# Altium integrated library ICs.IntLib: 97 symbols (part 3 of 3)
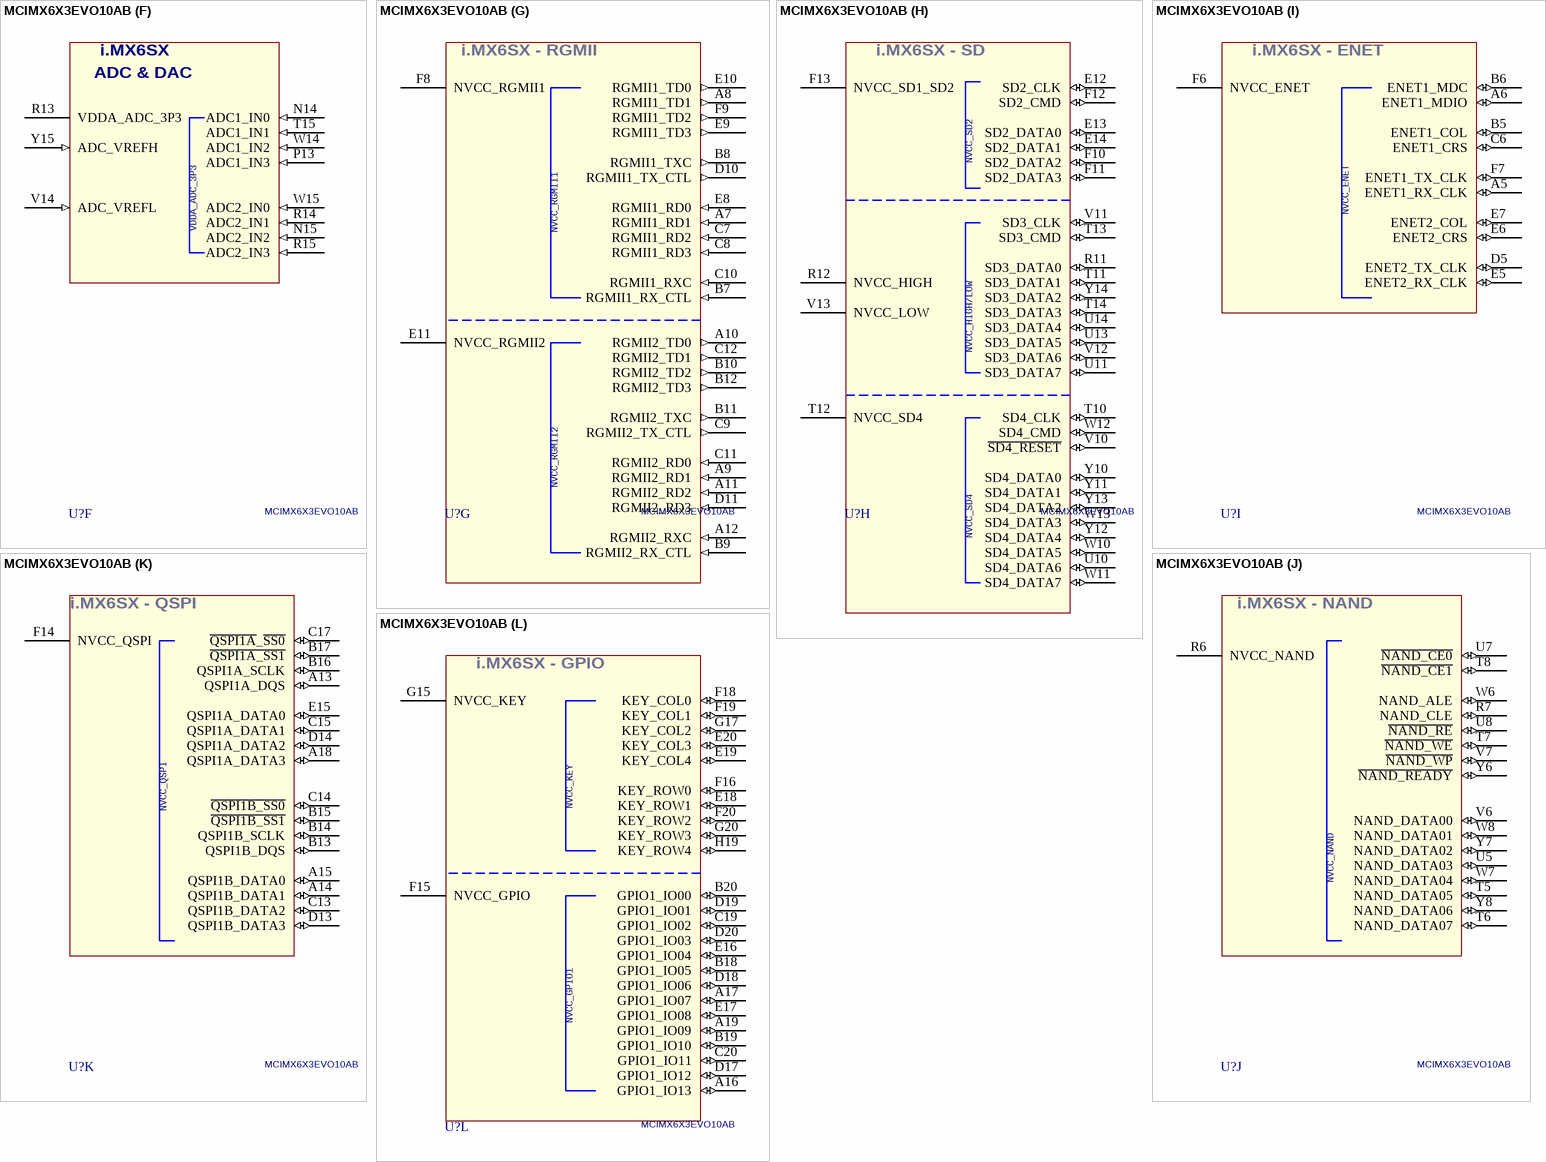
[diagram p38: symbol MCIMX6X3EVO10AB]

## MCIMX6X3EVO10AB
designator U?
IC MPU I.MX6SX 1GHZ 400MAPBGA; Manufacturer: NXP; PartNumber: MCIMX6X3EVO10AB; Mounting Technology: Surface Mount; PackageReference: BGA-400
footprint BGA-400 (BGA, 400-Leads, Body 14.00x14.00mmx1.30mm, Pitch 0.65mm)
part A pins: A1 VSS_1 (power), A20 VSS_2 (power), C3 VSS_3 (power), C4 VSS_4 (power), C16 VDD_ARM_CAP_0 (power), C18 VSS_5 (power), D6 VSS_6 (power), D7 VDD_SOC_IN_0 (power), D8 VDD_SOC_IN_1 (power), D9 VSS_7 (power), D12 VSS_8 (power), D15 VSS_9 (power), D16 VDD_ARM_CAP_1 (power), E3 VSS_10 (power), F3 VSS_11 (power), F5 VSS_12 (power), F17 VSS_13 (power), G7 VSS_14 (power), G8 VSS_15 (power), G9 VSS_16 (power), G10 VSS_17 (power), G11 VSS_18 (power), G12 VSS_19 (power), G13 VSS_20 (power), G14 VSS_21 (power), H3 VSS_22 (power), H7 VSS_23 (power), H8 VDD_SOC_CAP_0 (power), H9 VDD_SOC_CAP_1 (power), H10 VDD_ARM_CAP_2 (power), H11 VDD_ARM_CAP_3 (power), H12 VDD_ARM_CAP_4 (power), H13 VDD_ARM_CAP_5 (power), H14 VSS_24 (power), H18 VDD_ARM_IN (power), J7 VSS_25 (power), J8 VDD_SOC_CAP_2 (power), J9 VDD_SOC_IN_2 (power), J10 VDD_ARM_IN_0 (power), J11 VDD_ARM_IN_1 (power), J12 VDD_ARM_IN_2 (power), J13 VDD_ARM_CAP_6 (power), J14 VSS_26 (power), J17 VSS_27 (power), K3 VSS_28 (power), K8 VDD_SOC_CAP_3 (power), K9 VDD_SOC_IN_3 (power), K10 VSS_29 (power), K11 VSS_30 (power), K12 VDD_ARM_IN_3 (power), K13 VDD_ARM_CAP_7 (power), K14 VSS_31 (power), L3 VSS_32 (power), L7 VSS_33 (power), L8 VDD_SOC_CAP_4 (power), L9 VDD_SOC_IN_4 (power), L10 VSS_34 (power), L11 VSS_35 (power), L12 VDD_ARM_IN_4 (power), L13 VDD_ARM_CAP_8 (power), L14 VSS_36 (power), L18 PCIE_VP_CAP (power), M7 VSS_37 (power), M8 VDD_SOC_CAP_5 (power), M9 VDD_SOC_IN_5 (power), M10 VDD_SOC_IN_6 (power), M11 VDD_SOC_IN_7 (power), M12 VDD_SOC_IN_8 (power), M13 VDD_SOC_CAP_6 (power), M14 VSS_38 (power), M17 VSS_39 (power), N3 VSS_40 (power), N7 VSS_41 (power), N8 VDD_SOC_CAP_7 (power), N9 VDD_SOC_CAP_8 (power), N10 VDD_SOC_CAP_9 (power), N11 VDD_SOC_CAP_10 (power), N12 VDD_SOC_CAP_11 (power), N13 VSS_42 (power), N17 VDD_HIGH_CAP_0 (power), N18 VDD_HIGH_CAP_1 (power), P7 VSS_43 (power), P8 VSS_44 (power), P9 VSS_45 (power), P10 VSS_46 (power), P11 VSS_47 (power), P12 VSS_48 (power), P17 VDD_HIGH_IN_0 (power), P18 VDD_HIGH_IN_1 (power), R3 VSS_49 (power), R5 VSS_50 (power), R17 VSS_51 (power), R18 VDD_SNVS_IN (power), R19 VSS_52 (power), R20 VSS_53 (power), T3 VSS_54 (power), T16 NVSS_KEL0 (power), T18 VDD_SNVS_CAP (power), U6 VSS_55 (power), U9 VSS_56 (power), U12 VSS_57 (power), U15 VSS_58 (power), U18 NVCC_PLL (power), U19 VSS_59 (power), U20 VSS_60 (power), V3 VSS_61 (power), V4 VSS_62 (power), V9 VDD_SOC_CAP_12 (power), V18 VSS_63 (power), W18 VSS_64 (power), Y1 VSS_65 (power), Y18 VSS_66 (power), Y20 VSS_67 (power)
part B pins: N16 CCM_PMIC_STBY_REQ (out), P14 SNVS_TAMPER (in), P15 SNVS_PMIC_ON_REQ (out), P16 GPANAIO (power), P19 CCM_CLK1_P (io), P20 CCM_CLK1_N (io), R8 JTAG_MOD (in), R9 JTAG_TCK (in), R10 JTAG_TDI (in), R16 ~{POR} (in), T9 NVCC_JTAG (power), T19 XTALI (in), T20 XTALO (out), U16 ONOFF (in), V8 ~{JTAG_TRST} (in), V15 TEST_MODE (in), V16 CCM_CLK2 (io), W9 JTAG_TMS (in), W16 BOOT_MODE1 (in), W17 RTC_XTALO (out), Y9 JTAG_TDO (out), Y16 BOOT_MODE0 (in), Y17 RTC_XTALI (in)
part C pins: A2 DRAM_DATA28 (io), A3 DRAM_DATA26 (io), A4 DRAM_DATA31 (io), B1 DRAM_SDQS3_N (io), B2 DRAM_SDQS3_P (io), B3 DRAM_DATA25 (io), B4 DRAM_DATA30 (io), C1 DRAM_DQM3 (out), C2 DRAM_DATA27 (io), C5 DRAM_DATA29 (io), D1 DRAM_DATA13 (io), D2 DRAM_DATA15 (io), D3 DRAM_DATA24 (io), D4 DRAM_RESET (out), E1 DRAM_DATA14 (io), E2 DRAM_DATA11 (io), E4 DRAM_DATA12 (io), F1 DRAM_DATA08 (io), F2 DRAM_DATA09 (io), F4 DRAM_ADDR05 (out), G1 DRAM_SDQS1_P (io), G2 DRAM_DQM1 (out), G3 DRAM_DATA10 (io), G4 DRAM_SDBA0 (out), G5 DRAM_ADDR07 (out), G6 NVCC_DRAM_0 (power), H1 DRAM_SDQS1_N (io), H2 DRAM_ZQPAD (in), H4 DRAM_ADDR10 (out), H5 DRAM_ADDR04 (out), H6 NVCC_DRAM_1 (power), J1 ~{DRAM_RAS} (out), J2 DRAM_SDBA2 (out), J3 DRAM_ADDR13 (out), J4 DRAM_ADDR08 (out), J5 DRAM_SDCKE1 (out), J6 NVCC_DRAM_2 (power), K1 DRAM_SDCLK0_P (out), K2 ~{DRAM_CS1} (out), K4 DRAM_VREF (power), K5 DRAM_ADDR03 (out), K6 NVCC_DRAM_3 (power), K7 NVCC_DRAM_2P5 (power), L1 DRAM_SDCLK0_N (out), L2 DRAM_ADDR09 (out), L4 ~{DRAM_CS0} (out), L5 DRAM_SDCKE0 (out), L6 NVCC_DRAM_4 (power), M1 ~{DRAM_SDWE} (out), M2 DRAM_SDBA1 (out), M3 DRAM_ADDR11 (out), M4 DRAM_ADDR02 (out), M5 DRAM_ADDR12 (out), M6 NVCC_DRAM_5 (power), N1 DRAM_DQM0 (out), N2 ~{DRAM_CAS} (out), N4 DRAM_ADDR06 (out), N5 DRAM_ADDR00 (out), N6 NVCC_DRAM_6 (power), P1 DRAM_SDQS0_P (io), P2 DRAM_SDQS0_N (io), P3 DRAM_DATA06 (io), P4 DRAM_DATA07 (io), P5 DRAM_ADDR01 (out), P6 NVCC_DRAM_7 (power), R1 DRAM_ADDR14 (out), R2 DRAM_DATA03 (io), R4 DRAM_DATA05 (io), T1 DRAM_ODT0 (out), T2 DRAM_DATA00 (io), T4 DRAM_DATA22 (io), U1 DRAM_DATA02 (io), U2 DRAM_DATA01 (io), U3 DRAM_DATA04 (io), U4 DRAM_DATA19 (io), V1 DRAM_SDQS2_P (io), V2 DRAM_SDQS2_N (io), W1 DRAM_DQM2 (out), W2 DRAM_DATA23 (io), W3 DRAM_DATA20 (io), W4 DRAM_DATA17 (io), Y2 DRAM_DATA21 (io), Y3 DRAM_DATA18 (io), Y4 DRAM_DATA16 (io)
part D pins: G16 LCD1_DATA23 (io), G18 LCD1_DATA21 (io), G19 LCD1_DATA22 (io), H15 NVCC_CSI_LCD1 (power), H16 LCD1_DATA15 (io), H17 LCD1_DATA20 (io), H20 LCD1_DATA16 (io), J15 LCD1_HSYNC (io), J16 LCD1_VSYNC (io), J18 LCD1_RESET (io), J19 LCD1_DATA07 (io), J20 LCD1_DATA19 (io), K15 LCD1_DATA12 (io), K16 LCD1_DATA13 (io), K17 LCD1_DATA14 (io), K18 LCD1_DATA08 (io), K19 LCD1_DATA10 (io), K20 LCD1_ENABLE (io), L15 LCD1_DATA09 (io), L16 LCD1_DATA11 (io), L17 LCD1_DATA01 (io), L19 LCD1_CLK (io), L20 LCD1_DATA18 (io), M15 LCD1_DATA05 (io), M16 LCD1_DATA06 (io), M18 LCD1_DATA02 (io), M19 LCD1_DATA00 (io), M20 LCD1_DATA17 (io), N19 LCD1_DATA04 (io), N20 LCD1_DATA03 (io)
part E pins: T17 ~{USB_OTG1_CHD} (out), U17 USB_OTG2_VBUS (power), V5 NVCC_USB_H (power), V17 VDD_USB_CAP (power), V19 USB_OTG1_DN (io), V20 USB_OTG1_DP (io), W5 USB_H_STROBE, W19 USB_OTG2_DP (io), W20 USB_OTG1_VBUS (power), Y5 USB_H_DATA, Y19 USB_OTG2_DN (io)
part F pins: N14 ADC1_IN0 (in), N15 ADC2_IN2 (in), P13 ADC1_IN3 (in), R13 VDDA_ADC_3P3 (power), R14 ADC2_IN1 (in), R15 ADC2_IN3 (in), T15 ADC1_IN1 (in), V14 ADC_VREFL (in), W14 ADC1_IN2 (in), W15 ADC2_IN0 (in), Y15 ADC_VREFH (in)
part G pins: A7 RGMII1_RD1 (in), A8 RGMII1_TD1 (out), A9 RGMII2_RD1 (in), A10 RGMII2_TD0 (out), A11 RGMII2_RD2 (in), A12 RGMII2_RXC (in), B7 RGMII1_RX_CTL (in), B8 RGMII1_TXC (out), B9 RGMII2_RX_CTL (in), B10 RGMII2_TD2 (out), B11 RGMII2_TXC (out), B12 RGMII2_TD3 (out), C7 RGMII1_RD2 (in), C8 RGMII1_RD3 (in), C9 RGMII2_TX_CTL (out), C10 RGMII1_RXC (in), C11 RGMII2_RD0 (in), C12 RGMII2_TD1 (out), D10 RGMII1_TX_CTL (out), D11 RGMII2_RD3 (in), E8 RGMII1_RD0 (in), E9 RGMII1_TD3 (out), E10 RGMII1_TD0 (out), E11 NVCC_RGMII2 (power), F8 NVCC_RGMII1 (power), F9 RGMII1_TD2 (out)
part H pins: E12 SD2_CLK (io), E13 SD2_DATA0 (io), E14 SD2_DATA1 (io), F10 SD2_DATA2 (io), F11 SD2_DATA3 (io), F12 SD2_CMD (io), F13 NVCC_SD1_SD2 (power), R11 SD3_DATA0 (io), R12 NVCC_HIGH (power), T10 SD4_CLK (io), T11 SD3_DATA1 (io), T12 NVCC_SD4 (power), T13 SD3_CMD (io), T14 SD3_DATA3 (io), U10 SD4_DATA6 (io), U11 SD3_DATA7 (io), U13 SD3_DATA5 (io), U14 SD3_DATA4 (io), V10 ~{SD4_RESET} (io), V11 SD3_CLK (io), V12 SD3_DATA6 (io), V13 NVCC_LOW (power), W10 SD4_DATA5 (io), W11 SD4_DATA7 (io), W12 SD4_CMD (io), W13 SD4_DATA3 (io), Y10 SD4_DATA0 (io), Y11 SD4_DATA1 (io), Y12 SD4_DATA4 (io), Y13 SD4_DATA2 (io), Y14 SD3_DATA2 (io)
part I pins: A5 ENET1_RX_CLK (io), A6 ENET1_MDIO (io), B5 ENET1_COL (io), B6 ENET1_MDC (io), C6 ENET1_CRS (io), D5 ENET2_TX_CLK (io), E5 ENET2_RX_CLK (io), E6 ENET2_CRS (io), E7 ENET2_COL (io), F6 NVCC_ENET (power), F7 ENET1_TX_CLK (io)
part J pins: R6 NVCC_NAND (power), R7 NAND_CLE (io), T5 NAND_DATA05 (io), T6 NAND_DATA07 (io), T7 ~{NAND_WE} (io), T8 ~{NAND_CE1} (io), U5 NAND_DATA03 (io), U7 ~{NAND_CE0} (io), U8 ~{NAND_RE} (io), V6 NAND_DATA00 (io), V7 ~{NAND_WP} (io), W6 NAND_ALE (io), W7 NAND_DATA04 (io), W8 NAND_DATA01 (io), Y6 ~{NAND_READY} (io), Y7 NAND_DATA02 (io), Y8 NAND_DATA06 (io)
part K pins: A13 QSPI1A_DQS (io), A14 QSPI1B_DATA1 (io), A15 QSPI1B_DATA0 (io), A18 QSPI1A_DATA3 (io), B13 QSPI1B_DQS (io), B14 QSPI1B_SCLK (io), B15 ~{QSPI1B_SS1} (io), B16 QSPI1A_SCLK (io), B17 ~{QSPI1A_SS1} (io), C13 QSPI1B_DATA2 (io), C14 ~{QSPI1B_SS0} (io), C15 QSPI1A_DATA1 (io), C17 ~{QSPI1A}_~{SS0} (io), D13 QSPI1B_DATA3 (io), D14 QSPI1A_DATA2 (io), E15 QSPI1A_DATA0 (io), F14 NVCC_QSPI (power)
part L pins: A16 GPIO1_IO13 (io), A17 GPIO1_IO07 (io), A19 GPIO1_IO09 (io), B18 GPIO1_IO05 (io), B19 GPIO1_IO10 (io), B20 GPIO1_IO00 (io), C19 GPIO1_IO02 (io), C20 GPIO1_IO11 (io), D17 GPIO1_IO12 (io), D18 GPIO1_IO06 (io), D19 GPIO1_IO01 (io), D20 GPIO1_IO03 (io), E16 GPIO1_IO04 (io), E17 GPIO1_IO08 (io), E18 KEY_ROW1 (io), E19 KEY_COL4 (io), E20 KEY_COL3 (io), F15 NVCC_GPIO (power), F16 KEY_ROW0 (io), F18 KEY_COL0 (io), F19 KEY_COL1 (io), F20 KEY_ROW2 (io), G15 NVCC_KEY (power), G17 KEY_COL2 (io), G20 KEY_ROW3 (io), H19 KEY_ROW4 (io)
part A text: i.MX6SX - POWER; LDO_ARM; LDO_SOC; LDO_PCIE; LDO_2P5; LDO_1P1; LDO_SNVS
part B text: i.MX6SX - CONTROL; VDDHIGH_CAP; VDDHIGH_IN
part C text: i.MX6SX - DDR
part D text: i.MX6SX - LCD1; NVCC_LCD1
part E text: i.MX6SX - USB; LDO_USB
part F text: i.MX6SX; ADC & DAC
part G text: i.MX6SX - RGMII
part H text: i.MX6SX - SD; NVCC_SD2; NVCC_HIGH/LOW
part I text: i.MX6SX - ENET
part J text: i.MX6SX - NAND
part K text: i.MX6SX - QSPI
part L text: i.MX6SX - GPIO; NVCC_GPIO1


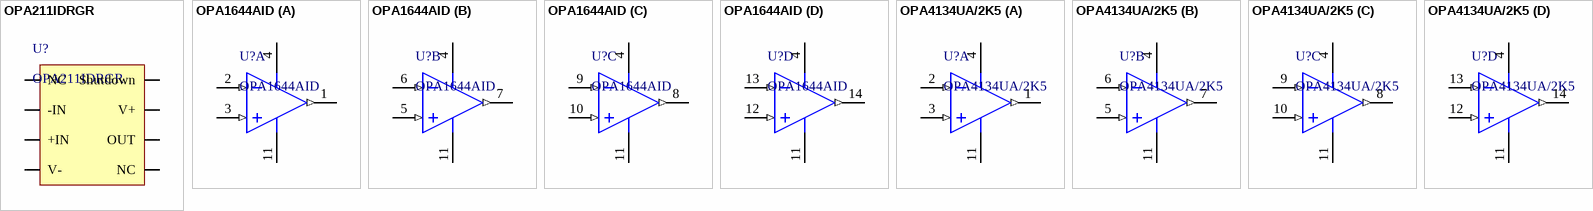
[diagram p28: symbols OPA211IDRGR to OPA4134UA/2K5]

## OPA211IDRGR
designator U?
Manufacturer: Texas Instruments; PartNumber: OPA211IDRGR; Mounting Technology: Surface Mount; Package Reference: SON
footprint WSON-8 (3x3MM) (SON, 8-Leads, Body 3.00x3.00mm, Pitch 0.50mm, Thermal Pad 2.35x1.40mm, IPC Medium Density)
pins: 1 NC, 2 -IN, 3 +IN, 4 V-, 5 Shutdown, 6 V+, 7 OUT, 8 NC

## OPA1644AID
designator U?
SoundPLUS(TM) High-Performance, JFET-Input Audio Operational Amplifier, 4.5 to 36 V, -40 to 85 degC, 14-pin SOIC (D14), Green (RoHS & no Sb/Br); Manufacturer: Texas Instruments; GBW(Typ)(MHz): 11; Vmin(V): 5; Iq per channel(Max)(mA): 2.3; Number of Channels: 4; Vmax(V): 36; Vn at Flatband(Typ)(nV/rtHz): 5.1; ComponentLink3Description: Package Specification; Code_JEDEC: MS-012; Mounting Technology: Surface Mount; Eco-Plan: Green (RoHS & no Sb/Br); ComponentLink1Description: Manufacturer URL; DatasheetVersion: SBOS484B; SubFamily: Audio Operational Amplifier; PackageDescription: 14-Pin Plastic Small Outline, Body 8.65 x 3.9 mm, Pitch 1.27 mm; ComponentLink1URL: http://www.ti.com/; PartNumber: OPA1644AID; PackageReference: D0014A; ComponentLink2Description: Datasheet; PackageVersion: 4040047-5/M, 06/2011; ComponentLink2URL: http://www.ti.com/general/docs/lit/getliterature.tsp?genericPartNumber=OPA1644&fileType=pdf; ComponentLink3URL: http://www.ti.com/lit/ml/mpds177g/mpds177g.pdf
footprint SOIC-14 (SOIC, 14-Leads, Body 8.75x4mm, Pitch 1.27mm, IPC Medium Density)
pins on every part: 4 V+ (power), 11 V- (power)
part A pins: 1 VOUT A (out), 2 IN A- (in), 3 IN A+ (in)
part B pins: 5 IN B+ (in), 6 IN B- (in), 7 VOUT B (out)
part C pins: 8 VOUT C (out), 9 IN C- (in), 10 IN C+ (in)
part D pins: 12 IN D+ (in), 13 IN D- (in), 14 VOUT D (out)

## OPA4134UA/2K5
designator U?
SoundPlus(TM) High Performance Audio Operational Amplifier, 5 to 36 V, -55 to 125 degC, 14-pin SOIC (D14), Green (RoHS & no Sb/Br); Manufacturer: Texas Instruments; Number of Channels: 4; Vmin(V): 5; Vmax(V): 36; Vn at Flatband(Typ)(nV/rtHz): 8; Eco-Plan: Green (RoHS & no Sb/Br); SubFamily: Audio Operational Amplifier; PartNumber: OPA4134UA/2K5; PackageDescription: 14-Pin Plastic Small Outline, Body 8.65 x 3.9 mm, Pitch 1.27 mm; Code_JEDEC: MS-012; ComponentLink2Description: Datasheet; PackageVersion: 4040047-5/M, 06/2011; ComponentLink2URL: http://www.ti.com/general/docs/lit/getliterature.tsp?genericPartNumber=OPA4134&fileType=pdf; ComponentLink3URL: http://www.ti.com/lit/ml/mpds177g/mpds177g.pdf; ComponentLink1Description: Manufacturer URL; ComponentLink1URL: http://www.ti.com/; Iq per channel(Max)(mA): 5; ComponentLink3Description: Package Specification; PackageReference: D0014A; Mounting Technology: Surface Mount; GBW(Typ)(MHz): 8; DatasheetVersion: SBOS058
footprint SOIC-14 (SOIC, 14-Leads, Body 8.75x4mm, Pitch 1.27mm, IPC Medium Density)
pins on every part: 4 V+ (power), 11 V- (power)
part A pins: 1 OUT A (out), 2 IN A- (in), 3 IN A+ (in)
part B pins: 5 IN B+ (in), 6 IN B- (in), 7 OUT B (out)
part C pins: 8 OUT C (out), 9 IN C- (in), 10 IN C+ (in)
part D pins: 12 IN D+ (in), 13 IN D- (in), 14 OUT D (out)


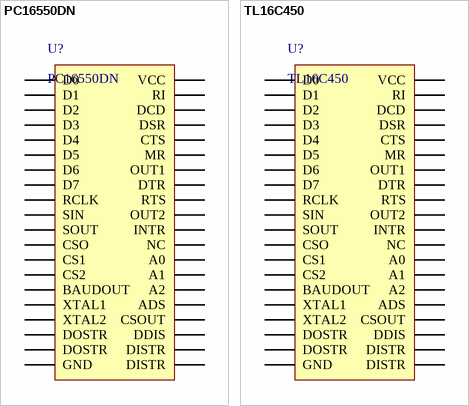
[diagram p29: symbols PC16550DN to TL16C450]

## PC16550DN
designator U?
Manufacturer: Texas Instruments; PartNumber: PC16550DN; Mounting Technology: Through Hole; PackageReference: PDIP-40
footprint PDIP-40
pins: 1 D0, 2 D1, 3 D2, 4 D3, 5 D4, 6 D5, 7 D6, 8 D7, 9 RCLK, 10 SIN, 11 SOUT, 12 CSO, 13 CS1, 14 CS2, 15 BAUDOUT, 16 XTAL1, 17 XTAL2, 18 DOSTR, 19 DOSTR, 20 GND, 21 DISTR, 22 DISTR, 23 DDIS, 24 CSOUT, 25 ADS, 26 A2, 27 A1, 28 A0, 29 NC, 30 INTR, 31 OUT2, 32 RTS, 33 DTR, 34 OUT1, 35 MR, 36 CTS, 37 DSR, 38 DCD, 39 RI, 40 VCC

## TL16C450
designator U?
Manufacturer: Texas Instruments; PartNumber: TL16C450; Mounting Technology: Through Hole; PackageReference: PDIP-40
footprint PDIP-40
pins: 1 D0, 2 D1, 3 D2, 4 D3, 5 D4, 6 D5, 7 D6, 8 D7, 9 RCLK, 10 SIN, 11 SOUT, 12 CSO, 13 CS1, 14 CS2, 15 BAUDOUT, 16 XTAL1, 17 XTAL2, 18 DOSTR, 19 DOSTR, 20 GND, 21 DISTR, 22 DISTR, 23 DDIS, 24 CSOUT, 25 ADS, 26 A2, 27 A1, 28 A0, 29 NC, 30 INTR, 31 OUT2, 32 RTS, 33 DTR, 34 OUT1, 35 MR, 36 CTS, 37 DSR, 38 DCD, 39 RI, 40 VCC


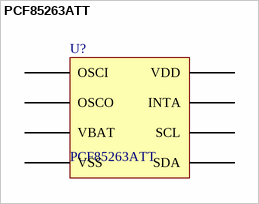
[diagram p30: symbol PCF85263ATT]

## PCF85263ATT
designator U?
Real Time Clock Real-Time Clock calendar; PartNumber: PCF85263ATT/AJ; Manufacturer: Texas Instruments; Mounting Technology: Surface Mount; PackageReference: TSSOP-8
footprint TSSOP-8 (TSOP, 8-Leads, Body 3.00x3.00mm, Pitch 0.65mm, IPC Medium Density)
pins: 1 OSCI, 2 OSCO, 3 VBAT (power), 4 VSS (power), 5 SDA, 6 SCL, 7 INTA, 8 VDD (power)


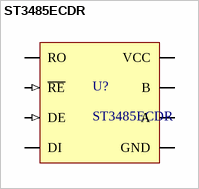
[diagram p31: symbol ST3485ECDR]

## ST3485ECDR
designator U?
3.3 V powered, 15 kV ESD protected, up to 12 Mbps RS-485/  RS-422 transceiver 0 to 70; Manufacturer: STMicroelectronics; Mounting Technology: Surface Mount; PackageReference: SOIC-8; PackageDescription: SOIC-8; PartNumber: ST3485ECDR
footprint SOIC-8 (SOIC, 8-Leads, Body 4.90x3.90mm, Pitch 1.27mm, IPC Medium Density)
pins: 1 RO (io), 2 ~{RE} (in), 3 DE (in), 4 DI (io), 5 GND (power), 6 A (io), 7 B (io), 8 VCC (power)


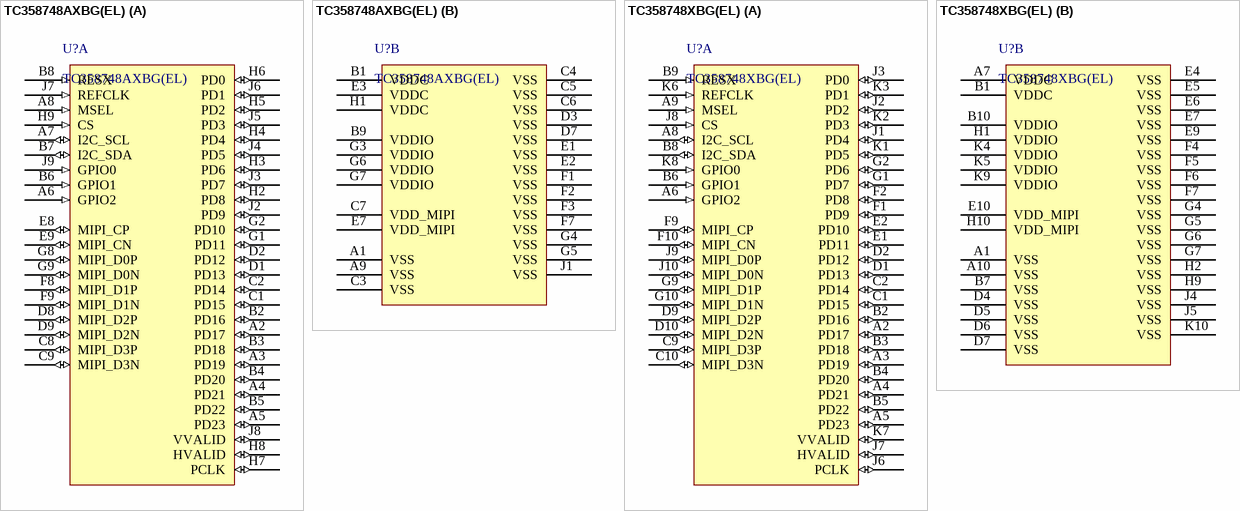
[diagram p32: symbols TC358748AXBG(EL) to TC358748XBG(EL)]

## TC358748AXBG(EL)
designator U?
IC MIPI CSI2 TO PARALLEL 72VFBGA; Manufacturer: Toshiba Semiconductor; PartNumber: TC358748AXBG(EL); Mounting Technology: Surface Mount; PackageReference: BGA-72
footprint BGA-72 (BGA, 72-Leads, Body 4.50x4.50mmx1.00mm, Pitch 0.40mm)
part A pins: A2 PD17 (io), A3 PD19 (io), A4 PD21 (io), A5 PD23 (io), A6 GPIO2 (in), A7 I2C_SCL (io), A8 MSEL (in), B2 PD16 (io), B3 PD18 (io), B4 PD20 (io), B5 PD22 (io), B6 GPIO1 (in), B7 I2C_SDA (io), B8 RESX (in), C1 PD15 (io), C2 PD14 (io), C8 MIPI_D3P (io), C9 MIPI_D3N (io), D1 PD13 (io), D2 PD12 (io), D8 MIPI_D2P (io), D9 MIPI_D2N (io), E8 MIPI_CP (io), E9 MIPI_CN (io), F8 MIPI_D1P (io), F9 MIPI_D1N (io), G1 PD11 (io), G2 PD10 (io), G8 MIPI_D0P (io), G9 MIPI_D0N (io), H2 PD8 (io), H3 PD6 (io), H4 PD4 (io), H5 PD2 (io), H6 PD0 (io), H7 PCLK (io), H8 HVALID (io), H9 CS (in), J2 PD9 (io), J3 PD7 (io), J4 PD5 (io), J5 PD3 (io), J6 PD1 (io), J7 REFCLK (in), J8 VVALID (io), J9 GPIO0 (in)
part B pins: A1 VSS (power), A9 VSS (power), B1 VDDC (power), B9 VDDIO (power), C3 VSS (power), C4 VSS (power), C5 VSS (power), C6 VSS (power), C7 VDD_MIPI (power), D3 VSS (power), D7 VSS (power), E1 VSS (power), E2 VSS (power), E3 VDDC (power), E7 VDD_MIPI (power), F1 VSS (power), F2 VSS (power), F3 VSS (power), F7 VSS (power), G3 VDDIO (power), G4 VSS (power), G5 VSS (power), G6 VDDIO (power), G7 VDDIO (power), H1 VDDC (power), J1 VSS (power)

## TC358748XBG(EL)
designator U?
IC MIPI CSI2 TO PARALLEL 80VFBGA; Manufacturer: Toshiba Semiconductor; PartNumber: TC358748XBG(EL); Mounting Technology: Surface Mount; PackageReference: BGA-80
footprint BGA-80 (BGA, 80-Leads, Body 7.00x7.00mmx1.00mm, Pitch 0.65mm)
part A pins: A2 PD17 (io), A3 PD19 (io), A4 PD21 (io), A5 PD23 (io), A6 GPIO2 (in), A8 I2C_SCL (io), A9 MSEL (in), B2 PD16 (io), B3 PD18 (io), B4 PD20 (io), B5 PD22 (io), B6 GPIO1 (in), B8 I2C_SDA (io), B9 RESX (in), C1 PD15 (io), C2 PD14 (io), C9 MIPI_D3P (io), C10 MIPI_D3N (io), D1 PD13 (io), D2 PD12 (io), D9 MIPI_D2P (io), D10 MIPI_D2N (io), E1 PD11 (io), E2 PD10 (io), F1 PD9 (io), F2 PD8 (io), F9 MIPI_CP (io), F10 MIPI_CN (io), G1 PD7 (io), G2 PD6 (io), G9 MIPI_D1P (io), G10 MIPI_D1N (io), J1 PD4 (io), J2 PD2 (io), J3 PD0 (io), J6 PCLK (io), J7 HVALID (io), J8 CS (in), J9 MIPI_D0P (io), J10 MIPI_D0N (io), K1 PD5 (io), K2 PD3 (io), K3 PD1 (io), K6 REFCLK (in), K7 VVALID (io), K8 GPIO0 (in)
part B pins: A1 VSS (power), A7 VDDC (power), A10 VSS (power), B1 VDDC (power), B7 VSS (power), B10 VDDIO (power), D4 VSS (power), D5 VSS (power), D6 VSS (power), D7 VSS (power), E4 VSS (power), E5 VSS (power), E6 VSS (power), E7 VSS (power), E9 VSS (power), E10 VDD_MIPI (power), F4 VSS (power), F5 VSS (power), F6 VSS (power), F7 VSS (power), G4 VSS (power), G5 VSS (power), G6 VSS (power), G7 VSS (power), H1 VDDIO (power), H2 VSS (power), H9 VSS (power), H10 VDD_MIPI (power), J4 VSS (power), J5 VSS (power), K4 VDDIO (power), K5 VDDIO (power), K9 VDDIO (power), K10 VSS (power)


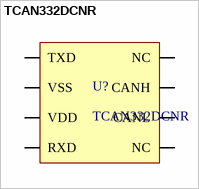
[diagram p33: symbol TCAN332DCNR]

## TCAN332DCNR
designator U?
CAN Interface IC 3.3-V CAN Transceivers with CAN FD (Flexible Data Rate) 8-SOT-23 -40 to 125; Manufacturer: Texas Instruments; Mounting Technology: Surface Mount; PackageReference: SOT-23-8; PackageDescription: SOT23, 8-Leads; PartNumber: TCAN332DCNR
footprint SOT-23-8 (SOT23, 6-Leads, Body 2.90x2.80mm, Pitch 0.65mm, IPC Medium Density)
pins: 1 TXD, 2 VSS, 3 VDD, 4 RXD, 5 NC, 6 CANL, 7 CANH, 8 NC


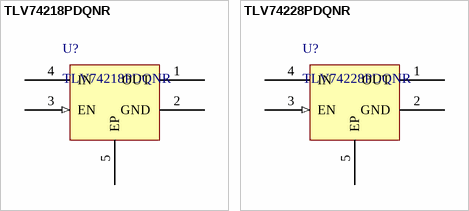
[diagram p34: symbols TLV74218PDQNR to TLV74228PDQNR]

## TLV74218PDQNR
designator U?
LDO Voltage Regulators 200mA Small-Size Low-Dropout (LDO) Linear Voltage Regulator 4-X2SON -40 to 125; Manufacturer: Texas Instruments; PartNumber: TLV74218PDQNR; PackageReference: X2SON-4; Mounting Technology: Surface Mount
footprint X2SON-4
pins: 1 OUT (power), 2 GND (power), 3 EN (in), 4 IN (power), 5 EP (power)

## TLV74228PDQNR
designator U?
LDO Voltage Regulators 200mA Small-Size Low-Dropout (LDO) Linear Voltage Regulator 4-X2SON -40 to 125; Manufacturer: Texas Instruments; PartNumber: TLV74218PDQNR; PackageReference: X2SON-4; Mounting Technology: Surface Mount
footprint X2SON-4
pins: 1 OUT (power), 2 GND (power), 3 EN (in), 4 IN (power), 5 EP (power)


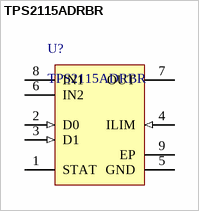
[diagram p35: symbol TPS2115ADRBR]

## TPS2115ADRBR
designator U?
Power Switch ICs - Power Distribution Autoswitching Pwr Mux; Manufacturer: Texas Instruments; PartNumber: TPS2115ADRBR; PackageReference: VSON-8; Mounting Technology: Surface Mount
footprint VSON-8 (3x3MM) (SON, 8-Leads, Body 3x3mm, Pitch 0.65mm, Thermal Pad 2.4x1.65mm, TI Recommended)
pins: 1 STAT (hiz) "STAT is an open-drain output that is Hi-Z if the IN2 switch is ON. STAT pulls low if the IN1 switch is ON or if OUT is Hi-Z (i.e., E\N\ is equal to logic 0).", 2 D0 (in) "TTL- and CMOS-compatible input pins. Each pin has a 1-uA pull-up.", 3 D1 (in) "TTL- and CMOS-compatible input pins. Each pin has a 1-uA pull-up.", 4 ILIM (in) "A resistor RILIM from ILIM to GND sets the current limit IL to 500/RILIM", 5 GND (power) "Ground", 6 IN2 (power) "Secondary power switch input. The IN2 switch can be enabled only if the IN2 supply is above the UVLO threshold and at least one supply exceeds the internal VDD UVLO.", 7 OUT (power) "Power switch output", 8 IN1 (power) "Primary power switch input. The IN1 switch can be enabled only if the IN1 supply is above the UVLO threshold and at least one supply exceeds the internal VDD UVLO.", 9 EP (power) "Tie to GND. Connect to internal planes for improved heatsinking with multiple vias."


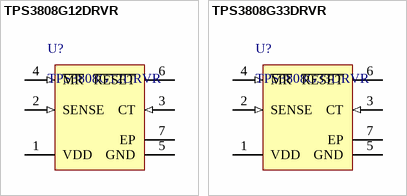
[diagram p36: symbols TPS3808G12DRVR to TPS3808G33DRVR]

## TPS3808G12DRVR
designator U?
Manufacturer: Texas Instruments; PackageReference: WSON-6; Mounting Technology: Surface Mount; PartNumber: TPS3808G12DRVR
footprint WSON-6 (SON, 6-Leads, Body 2x2mm, Pitch 0.65mm, Thermal Pad 1.6x1mm, TI Recommended)
pins: 1 VDD (power) "Supply voltage. It is good analog design practice to place a 0.1µF ceramic capacitor close to this pin.", 2 SENSE (in) "This pin is connected to the voltage to be monitored. If the voltage at this terminal drops below the threshold voltage VIT, then R\E\S\E\T\ is asserted.", 3 CT (in) "Reset period programming pin. Connecting this pin to VDD through a 40kohm to 200kohm resistor or leaving it open results in fixed delay times (see Electrical Characteristics). Connecting this pin to a ground reference (See Datasheet)", 4 ~{MR} (in) "Driving the manual reset pin (M\R\) low asserts R\E\S\E\T\. MR is internally tied to VDD by a 90k ohm pull-up resistor.", 5 GND (power) "Ground", 6 ~{RESET} (hiz) "R\E\S\E\T\ is an open-drain output that is driven to a low impedance state when R\E\S\E\T\ is asserted (either the SENSE input is lower than the threshold voltage (VIT) or the M\R\ pin is set to a logic low). R\E\S\E\T\ will (See Datasheet)", 7 EP (power) "PowerPAD. Connect to ground plane to enhance thermal performance of package"

## TPS3808G33DRVR
designator U?
IC VOLT SUPERVISOR 3.3V; Manufacturer: Texas Instruments; PackageReference: WSON-6; Mounting Technology: Surface Mount; PartNumber: TPS3808G33DRVR
footprint WSON-6 (SON, 6-Leads, Body 2x2mm, Pitch 0.65mm, Thermal Pad 1.6x1mm, TI Recommended)
pins: 1 VDD (power) "Supply voltage. It is good analog design practice to place a 0.1µF ceramic capacitor close to this pin.", 2 SENSE (in) "This pin is connected to the voltage to be monitored. If the voltage at this terminal drops below the threshold voltage VIT, then R\E\S\E\T\ is asserted.", 3 CT (in) "Reset period programming pin. Connecting this pin to VDD through a 40kohm to 200kohm resistor or leaving it open results in fixed delay times (see Electrical Characteristics). Connecting this pin to a ground reference (See Datasheet)", 4 ~{MR} (in) "Driving the manual reset pin (M\R\) low asserts R\E\S\E\T\. MR is internally tied to VDD by a 90k ohm pull-up resistor.", 5 GND (power) "Ground", 6 ~{RESET} (hiz) "R\E\S\E\T\ is an open-drain output that is driven to a low impedance state when R\E\S\E\T\ is asserted (either the SENSE input is lower than the threshold voltage (VIT) or the M\R\ pin is set to a logic low). R\E\S\E\T\ will (See Datasheet)", 7 EP (power) "PowerPAD. Connect to ground plane to enhance thermal performance of package"